# EAGLE library part TPS61235 (library My_TI)
TPS61235 8-A Valley Current Synchronous Boost Converters with Constant Current Output Feature. • Up to 97% Efficiency Synchronous Boost. • Up to 3.5-A IOUT for 3.3-V to 5-V Conversion. • Fixed 5.1-V Output Voltage. Datasheet <http://www.ti.com/lit/ds/symlink/tps61235.pdf>
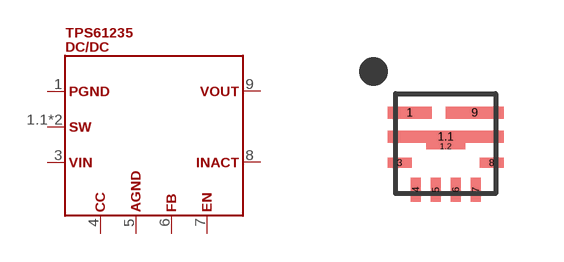
[diagram p35: symbol with the pads of VQFN9; footprint VQFN9]

Designator prefix DC/DC

## TPS61235  [VQFN9]
1  P$1
1.1  P$2
1.2  P$2
3  P$3
4  P$4
5  P$5
6  P$6
7  P$7
8  P$8
9  P$9

## Footprint VQFN9 (pad centres in mm)
smd 1.1 x 0.3: 1 -0.9,0.77
smd 2.9 x 0.3: 1.1 0,0.17
smd 0.975 x 0.15: 1.2 0,-0.065
smd 0.6 x 0.25: 3 -1.15,-0.475; 8 1.15,-0.475
smd 0.25 x 0.6: 4 -0.75,-1.15; 5 -0.25,-1.15; 6 0.25,-1.15; 7 0.75,-1.15
smd 1.45 x 0.3: 9 0.725,0.77